# Altium schematic symbol library TFP410PAP.SchLib: 2 symbols
Pins are listed as number, name and electrical type; pins without a type are passive.

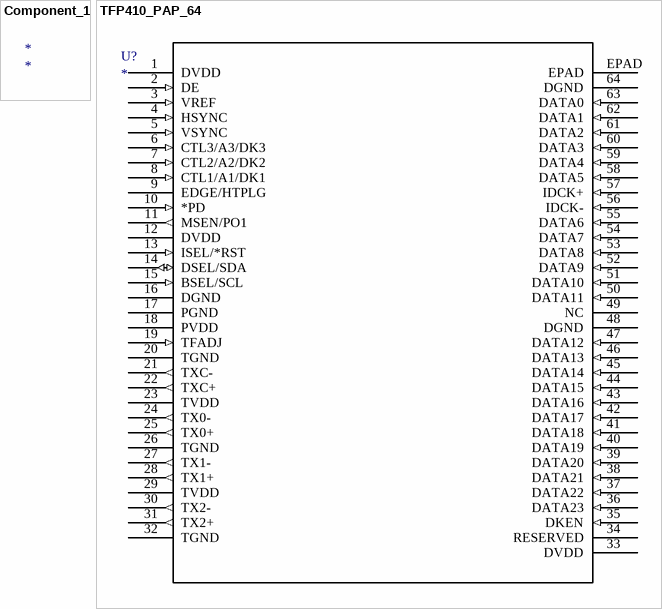
[diagram p0: symbols Component_1 to TFP410_PAP_64]

## Component_1
designator *

## TFP410_PAP_64
designator U?
Imported; Manufacturer: Texas Instruments; GENERIC_PART_NUMBER: TFP410; Manufacturer_Part_Number: tfp410_pap_64; INDUSTRY_STD_PKG_TYPE: HTQFP; FAMILY_NAME: PANELBUS (DVI); PIN_COUNT: 64; PACKAGE_DESIGNATOR: PAP; Datasheet URL: http://www.ti.com/lit/gpn/TFP410; Vendor: Texas Instruments; RefDes: RefDes; Type: DEV; Value: Value
footprint PAP64_5X5
pins: 1 DVDD (power), 2 DE (in), 3 VREF (in), 4 HSYNC (in), 5 VSYNC (in), 6 CTL3/A3/DK3 (in), 7 CTL2/A2/DK2 (in), 8 CTL1/A1/DK1 (in), 9 EDGE/HTPLG, 10 *PD (in), 11 MSEN/PO1 (out), 12 DVDD (power), 13 ISEL/*RST (in), 14 DSEL/SDA (io), 15 BSEL/SCL (in), 16 DGND (power), 17 PGND (power), 18 PVDD (power), 19 TFADJ (in), 20 TGND (power), 21 TXC- (out), 22 TXC+ (out), 23 TVDD (power), 24 TX0- (out), 25 TX0+ (out), 26 TGND (power), 27 TX1- (out), 28 TX1+ (out), 29 TVDD (power), 30 TX2- (out), 31 TX2+ (out), 32 TGND (power), 33 DVDD (power), 34 RESERVED, 35 DKEN (in), 36 DATA23 (in), 37 DATA22 (in), 38 DATA21 (in), 39 DATA20 (in), 40 DATA19 (in), 41 DATA18 (in), 42 DATA17 (in), 43 DATA16 (in), 44 DATA15 (in), 45 DATA14 (in), 46 DATA13 (in), 47 DATA12 (in), 48 DGND (power), 49 NC, 50 DATA11 (in), 51 DATA10 (in), 52 DATA9 (in), 53 DATA8 (in), 54 DATA7 (in), 55 DATA6 (in), 56 IDCK- (in), 57 IDCK+ (in), 58 DATA5 (in), 59 DATA4 (in), 60 DATA3 (in), 61 DATA2 (in), 62 DATA1 (in), 63 DATA0 (in), 64 DGND (power), EPAD